# Altium schematic symbol library FFC.SchLib: 1 symbol
Pins are listed as number, name and electrical type; pins without a type are passive.

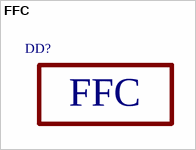
[diagram p0: symbol FFC]

## FFC
designator DD?